# EAGLE library part CY7C65215-?XI* (library cypress_usb-serial)
USB-Serial Dual Channel (UART/I2C/SPI) Bridge with CapSense® and BCD Features: USB 2.0 certified, Full-Speed (12 Mbps) Two-channel configurable UART interfaces Two-channel configurable SPI interfaces Two-channel configurable I2C interfaces CapSense® JTAG interface: JTAG master for code flashing at 400 kHz General-purpose input/output (GPIO) pins: 17 Source: http://www.cypress.com/?docID=49678
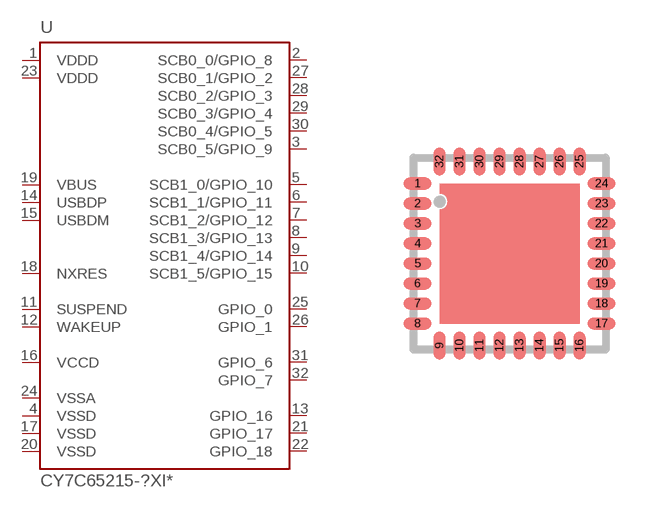
[diagram p0: symbol with the pads of QFN32; footprint QFN32]

Designator prefix -

## CY7C65215-32LTXI (MPN: CY7C65215-32LTXI; OC_DIGIKEY: CY7C65215-32LTXI-ND; OC_FARNELL: 2345649; OC_MOUSER: 727-CY7C65215-32LTXI; OC_NEWARK: 06X1915; TAPE_REEL: NO), CY7C65215-32LTXIT (MPN: CY7C65215-32LTXIT; OC_DIGIKEY: unknown; OC_FARNELL: unknown; OC_MOUSER: 727-CY7C6521532LTXIT; OC_NEWARK: 46X1386; TAPE_REEL: YES)  [QFN32]
1  VDDD  pwr
2  SCB0_0/GPIO_8
3  SCB0_5/GPIO_9
4  VSSD  pwr
5  SCB1_0/GPIO_10
6  SCB1_1/GPIO_11
7  SCB1_2/GPIO_12
8  SCB1_3/GPIO_13
9  SCB1_4/GPIO_14
10  SCB1_5/GPIO_15
11  SUSPEND  out
12  WAKEUP  in
13  GPIO_16
14  USBDP
15  USBDM
16  VCCD  pwr
17  VSSD  pwr
18  NXRES  in
19  VBUS  pwr
20  VSSD  pwr
21  GPIO_17
22  GPIO_18
23  VDDD  pwr
24  VSSA  pwr
25  GPIO_0
26  GPIO_1
27  SCB0_1/GPIO_2
28  SCB0_2/GPIO_3
29  SCB0_3/GPIO_4
30  SCB0_4/GPIO_5
31  GPIO_6
32  GPIO_7

## Footprint QFN32 (pad centres in mm)
32-pin QFN (5 × 5 × 1 mm, 0.5 mm pitch) Original part from cypress.lbr.
smd 0.7 x 0.3: 1 -2.3,1.75; 2 -2.3,1.25; 3 -2.3,0.75; 4 -2.3,0.25; 5 -2.3,-0.25; 6 -2.3,-0.75; 7 -2.3,-1.25; 8 -2.3,-1.75; 17 2.3,-1.75; 18 2.3,-1.25; 19 2.3,-0.75; 20 2.3,-0.25; 21 2.3,0.25; 22 2.3,0.75; 23 2.3,1.25; 24 2.3,1.75
smd 0.3 x 0.7: 9 -1.75,-2.3; 10 -1.25,-2.3; 11 -0.75,-2.3; 12 -0.25,-2.3; 13 0.25,-2.3; 14 0.75,-2.3; 15 1.25,-2.3; 16 1.75,-2.3; 25 1.75,2.3; 26 1.25,2.3; 27 0.75,2.3; 28 0.25,2.3; 29 -0.25,2.3; 30 -0.75,2.3; 31 -1.25,2.3; 32 -1.75,2.3